# EAGLE library part M09 (library KwanSystems)
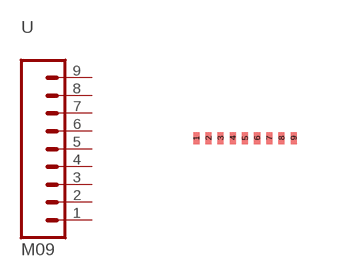
[diagram p8: symbol with the pads of M09_INTERFACE; footprint M09_INTERFACE]

Designator prefix -

## M09  [M09_INTERFACE]
1  1  pas
2  2  pas
3  3  pas
4  4  pas
5  5  pas
6  6  pas
7  7  pas
8  8  pas
9  9  pas

## Footprint M09_INTERFACE (pad centres in mm)
smd 0.152 x 0.305: 1 0,0; 2 0.305,0; 3 0.61,0; 4 0.914,0; 5 1.219,0; 6 1.524,0; 7 1.829,0; 8 2.134,0; 9 2.438,0